# Altium footprint library CONN_4Pin_Mate-n-Lock.PcbLib: 1 footprints
Each footprint in its own frame and in the unit in brackets; x right, y up, seen from the top. Pads: shape width x height; smd on the part's side, far side on the other; paste and mask are expansions set on the pad; w line width, h text height; cw(c..) or ccw(c..) is an arc to the next point about the centre after c.
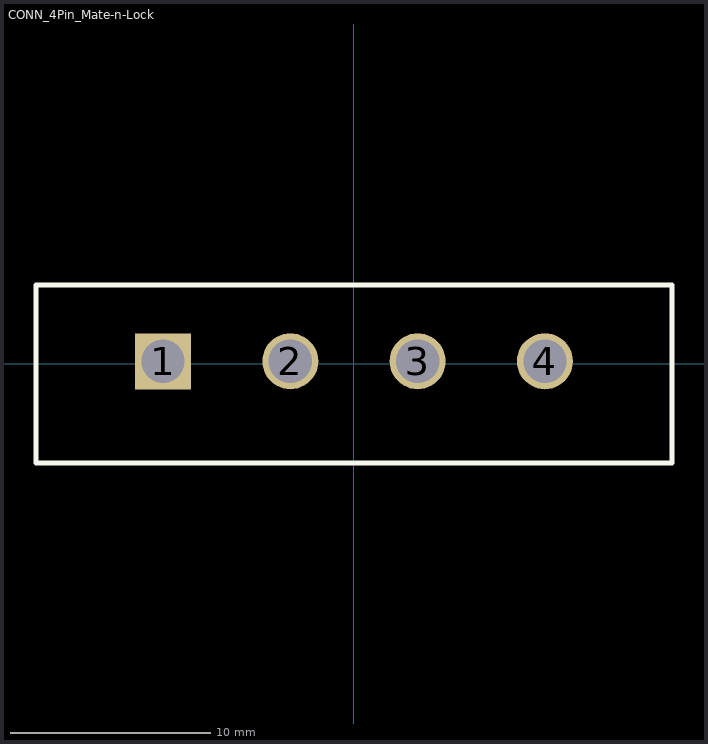
[diagram p0: the footprint, top view; thin cyan lines are the x and y axes]

## CONN_4Pin_Mate-n-Lock [mil] "4 Pin Connector"
pads (4):
  rect 110x110 hole 85: 1(-375,5)
  round 110 hole 85: 2(-125,5) 3(125,5) 4(375,5)
Top Overlay:
  lines w10: -625,-195 625,-195 625,155 -625,155 -625,-195
3D body: height 578.5, standoff -145, extent -625,-195 625,155